# Altium schematic symbol library regulator.SchLib: 1 symbol
Pins are listed as number, name and electrical type; pins without a type are passive.

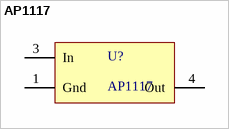
[diagram p0: symbol AP1117]

## AP1117
designator U?
footprint D2PAK_N (Footprint not found)
footprint D2PAK_M (Footprint not found)
pins: 1 Gnd, 3 In, 4 Out